# Altium schematic symbol library Microver.SchLib: 988 symbols (part 3 of 17)
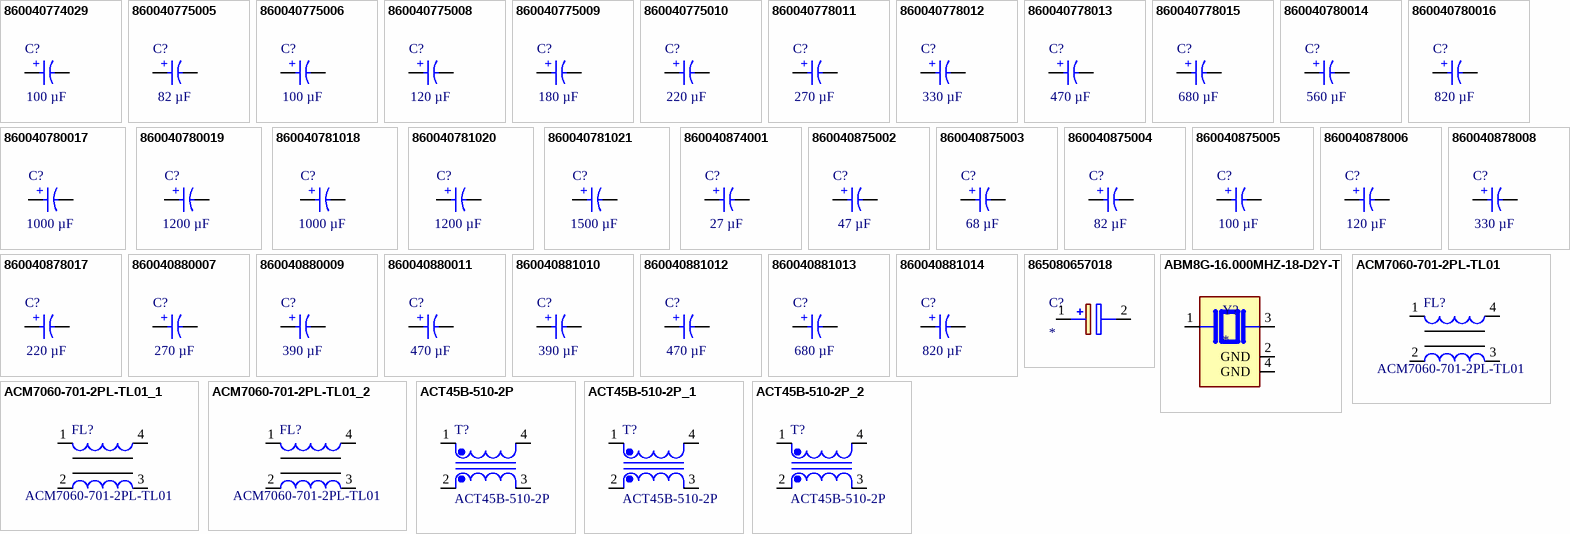
[diagram p31: symbols 860040774029 to ACT45B-510-2P_2]

## 860040774029
designator C?, comment 100 µF
WCAP-ATUL Aluminum Electrolytic Capacitor, Radial, THT, D8 x H16 mm, 100 µF, 63 V; Manufacturer Part Number: 860040774029; Manufacturer: Wurth Elektronik; Capacitance Tolerance: 20%; Dissipation Factor: 9%; Endurance: 9000 h; Leakage Current: 63 µA; Rated Voltage (DC): 63 V; Ripple Current: 990 mA; Category: Aluminum Electrolytic Capacitors; Match Code: WCAP-ATUL; ComponentLink1Description: Website Link; ComponentLink1URL: https://www.we-online.com/redexpert/article/860040774029?ad; ComponentLink2Description: Datasheet Link; ComponentLink2URL: https://www.we-online.com/redexpert/spec/860040774029?ad; Mount: Through Hole; Min Operating Temperature: -40 °C; Max Operating Temperature: 105 °C; Packaging: Bulk; Height: 16 mm; Diameter: 8 mm; Capacitance: 100 µF
footprint WCAP-ATUL_D8H16
simulation model 860040774029_100uF
pins: 1 P, 2 N
text: +

## 860040775005
designator C?, comment 82 µF
WCAP-ATUL Aluminum Electrolytic Capacitor, Radial, THT, D10 x H12.5 mm, 82 µF, 63 V; Manufacturer Part Number: 860040775005; Manufacturer: Wurth Elektronik; Capacitance Tolerance: 20%; Dissipation Factor: 9%; Endurance: 7000 h; Leakage Current: 51.66 µA; Rated Voltage (DC): 63 V; Ripple Current: 500 mA; Category: Aluminum Electrolytic Capacitors; Match Code: WCAP-ATUL; ComponentLink1Description: Website Link; ComponentLink1URL: https://www.we-online.com/redexpert/article/860040775005?ad; ComponentLink2Description: Datasheet Link; ComponentLink2URL: https://www.we-online.com/redexpert/spec/860040775005?ad; Mount: Through Hole; Min Operating Temperature: -40 °C; Max Operating Temperature: 105 °C; Packaging: Ammo Pack; Height: 12.5 mm; Diameter: 10 mm; Capacitance: 82 µF
footprint WCAP-ATUL_D10H12.5
simulation model 860040775005_82uF
pins: 1 P, 2 N
text: +

## 860040775006
designator C?, comment 100 µF
WCAP-ATUL Aluminum Electrolytic Capacitor, Radial, THT, D10 x H12.5 mm, 100 µF, 63 V; Manufacturer Part Number: 860040775006; Manufacturer: Wurth Elektronik; Capacitance Tolerance: 20%; Dissipation Factor: 9%; Endurance: 7000 h; Leakage Current: 63 µA; Rated Voltage (DC): 63 V; Ripple Current: 640 mA; Category: Aluminum Electrolytic Capacitors; Match Code: WCAP-ATUL; ComponentLink1Description: Website Link; ComponentLink1URL: https://www.we-online.com/redexpert/article/860040775006?ad; ComponentLink2Description: Datasheet Link; ComponentLink2URL: https://www.we-online.com/redexpert/spec/860040775006?ad; Mount: Through Hole; Min Operating Temperature: -40 °C; Max Operating Temperature: 105 °C; Packaging: Ammo Pack; Height: 12.5 mm; Diameter: 10 mm; Capacitance: 100 µF
footprint WCAP-ATUL_D10H12.5
simulation model 860040775006_100uF
pins: 1 P, 2 N
text: +

## 860040775008
designator C?, comment 120 µF
WCAP-ATUL Aluminum Electrolytic Capacitor, Radial, THT, D10 x H16 mm, 120 µF, 63 V; Manufacturer Part Number: 860040775008; Manufacturer: Wurth Elektronik; Capacitance Tolerance: 20%; Dissipation Factor: 9%; Endurance: 7000 h; Leakage Current: 75.6 µA; Rated Voltage (DC): 63 V; Ripple Current: 760 mA; Category: Aluminum Electrolytic Capacitors; Match Code: WCAP-ATUL; ComponentLink1Description: Website Link; ComponentLink1URL: https://www.we-online.com/redexpert/article/860040775008?ad; ComponentLink2Description: Datasheet Link; ComponentLink2URL: https://www.we-online.com/redexpert/spec/860040775008?ad; Mount: Through Hole; Min Operating Temperature: -40 °C; Max Operating Temperature: 105 °C; Packaging: Ammo Pack; Height: 16 mm; Diameter: 10 mm; Capacitance: 120 µF
footprint WCAP-ATUL_D10H16
simulation model 860040775008_120uF
pins: 1 P, 2 N
text: +

## 860040775009
designator C?, comment 180 µF
WCAP-ATUL Aluminum Electrolytic Capacitor, Radial, THT, D10 x H20 mm, 180 µF, 63 V; Manufacturer Part Number: 860040775009; Manufacturer: Wurth Elektronik; Capacitance Tolerance: 20%; Dissipation Factor: 9%; Endurance: 7000 h; Leakage Current: 113.4 µA; Rated Voltage (DC): 63 V; Ripple Current: 880 mA; Category: Aluminum Electrolytic Capacitors; Match Code: WCAP-ATUL; ComponentLink1Description: Website Link; ComponentLink1URL: https://www.we-online.com/redexpert/article/860040775009?ad; ComponentLink2Description: Datasheet Link; ComponentLink2URL: https://www.we-online.com/redexpert/spec/860040775009?ad; Mount: Through Hole; Min Operating Temperature: -40 °C; Max Operating Temperature: 105 °C; Packaging: Ammo Pack; Height: 20 mm; Diameter: 10 mm; Capacitance: 180 µF
footprint WCAP-ATUL_D10H20
simulation model 860040775009_180uF
pins: 1 P, 2 N
text: +

## 860040775010
designator C?, comment 220 µF
WCAP-ATUL Aluminum Electrolytic Capacitor, Radial, THT, D10 x H25 mm, 220 µF, 63 V; Manufacturer Part Number: 860040775010; Manufacturer: Wurth Elektronik; Capacitance Tolerance: 20%; Dissipation Factor: 9%; Endurance: 7000 h; Leakage Current: 138.6 µA; Rated Voltage (DC): 63 V; Ripple Current: 1100 mA; Category: Aluminum Electrolytic Capacitors; Match Code: WCAP-ATUL; ComponentLink1Description: Website Link; ComponentLink1URL: https://www.we-online.com/redexpert/article/860040775010?ad; ComponentLink2Description: Datasheet Link; ComponentLink2URL: https://www.we-online.com/redexpert/spec/860040775010?ad; Mount: Through Hole; Min Operating Temperature: -40 °C; Max Operating Temperature: 105 °C; Packaging: Ammo Pack; Height: 25 mm; Diameter: 10 mm; Capacitance: 220 µF
footprint WCAP-ATUL_D10H25
simulation model 860040775010_220uF
pins: 1 P, 2 N
text: +

## 860040778011
designator C?, comment 270 µF
WCAP-ATUL Aluminum Electrolytic Capacitor, Radial, THT, D13 x H20 mm, 270 µF, 63 V; Manufacturer Part Number: 860040778011; Manufacturer: Wurth Elektronik; Capacitance Tolerance: 20%; Dissipation Factor: 9%; Endurance: 10000 h; Leakage Current: 170.1 µA; Rated Voltage (DC): 63 V; Ripple Current: 1200 mA; Category: Aluminum Electrolytic Capacitors; Match Code: WCAP-ATUL; ComponentLink1Description: Website Link; ComponentLink1URL: https://www.we-online.com/redexpert/article/860040778011?ad; ComponentLink2Description: Datasheet Link; ComponentLink2URL: https://www.we-online.com/redexpert/spec/860040778011?ad; Mount: Through Hole; Min Operating Temperature: -40 °C; Max Operating Temperature: 105 °C; Packaging: Ammo Pack; Height: 20 mm; Diameter: 13 mm; Capacitance: 270 µF
footprint WCAP-ATUL_D13H20
simulation model 860040778011_270uF
pins: 1 P, 2 N
text: +

## 860040778012
designator C?, comment 330 µF
WCAP-ATUL Aluminum Electrolytic Capacitor, Radial, THT, D13 x H25 mm, 330 µF, 63 V; Manufacturer Part Number: 860040778012; Manufacturer: Wurth Elektronik; Capacitance Tolerance: 20%; Dissipation Factor: 9%; Endurance: 10000 h; Leakage Current: 207.9 µA; Rated Voltage (DC): 63 V; Ripple Current: 1600 mA; Category: Aluminum Electrolytic Capacitors; Match Code: WCAP-ATUL; ComponentLink1Description: Website Link; ComponentLink1URL: https://www.we-online.com/redexpert/article/860040778012?ad; ComponentLink2Description: Datasheet Link; ComponentLink2URL: https://www.we-online.com/redexpert/spec/860040778012?ad; Mount: Through Hole; Min Operating Temperature: -40 °C; Max Operating Temperature: 105 °C; Packaging: Ammo Pack; Height: 25 mm; Diameter: 13 mm; Capacitance: 330 µF
footprint WCAP-ATUL_D13H25
simulation model 860040778012_330uF
pins: 1 P, 2 N
text: +

## 860040778013
designator C?, comment 470 µF
WCAP-ATUL Aluminum Electrolytic Capacitor, Radial, THT, D13 x H30 mm, 470 µF, 63 V; Manufacturer Part Number: 860040778013; Manufacturer: Wurth Elektronik; Capacitance Tolerance: 20%; Dissipation Factor: 9%; Endurance: 10000 h; Leakage Current: 296.1 µA; Rated Voltage (DC): 63 V; Ripple Current: 1800 mA; Category: Aluminum Electrolytic Capacitors; Match Code: WCAP-ATUL; ComponentLink1Description: Website Link; ComponentLink1URL: https://www.we-online.com/redexpert/article/860040778013?ad; ComponentLink2Description: Datasheet Link; ComponentLink2URL: https://www.we-online.com/redexpert/spec/860040778013?ad; Mount: Through Hole; Min Operating Temperature: -40 °C; Max Operating Temperature: 105 °C; Packaging: Ammo Pack; Height: 30 mm; Diameter: 13 mm; Capacitance: 470 µF
footprint WCAP-ATUL_D13H30
simulation model 860040778013_470uF
pins: 1 P, 2 N
text: +

## 860040778015
designator C?, comment 680 µF
WCAP-ATUL Aluminum Electrolytic Capacitor, Radial, THT, D13 x H40 mm, 680 µF, 63 V; Manufacturer Part Number: 860040778015; Manufacturer: Wurth Elektronik; Capacitance Tolerance: 20%; Dissipation Factor: 9%; Endurance: 10000 h; Leakage Current: 428.4 µA; Rated Voltage (DC): 63 V; Ripple Current: 2200 mA; Category: Aluminum Electrolytic Capacitors; Match Code: WCAP-ATUL; ComponentLink1Description: Website Link; ComponentLink1URL: https://www.we-online.com/redexpert/article/860040778015?ad; ComponentLink2Description: Datasheet Link; ComponentLink2URL: https://www.we-online.com/redexpert/spec/860040778015?ad; Mount: Through Hole; Min Operating Temperature: -40 °C; Max Operating Temperature: 105 °C; Packaging: Ammo Pack; Height: 40 mm; Diameter: 13 mm; Capacitance: 680 µF
footprint WCAP-ATUL_D13H40
simulation model 860040778015_680uF
pins: 1 P, 2 N
text: +

## 860040780014
designator C?, comment 560 µF
WCAP-ATUL Aluminum Electrolytic Capacitor, Radial, THT, D16 x H25 mm, 560 µF, 63 V; Manufacturer Part Number: 860040780014; Manufacturer: Wurth Elektronik; Capacitance Tolerance: 20%; Dissipation Factor: 9%; Endurance: 10000 h; Leakage Current: 352.8 µA; Rated Voltage (DC): 63 V; Ripple Current: 2000 mA; Category: Aluminum Electrolytic Capacitors; Match Code: WCAP-ATUL; ComponentLink1Description: Website Link; ComponentLink1URL: https://www.we-online.com/redexpert/article/860040780014?ad; ComponentLink2Description: Datasheet Link; ComponentLink2URL: https://www.we-online.com/redexpert/spec/860040780014?ad; Mount: Through Hole; Min Operating Temperature: -40 °C; Max Operating Temperature: 105 °C; Packaging: Ammo Pack; Height: 25 mm; Diameter: 16 mm; Capacitance: 560 µF
footprint WCAP-ATUL_D16H25
simulation model 860040780014_560uF
pins: 1 P, 2 N
text: +

## 860040780016
designator C?, comment 820 µF
WCAP-ATUL Aluminum Electrolytic Capacitor, Radial, THT, D16 x H31.5 mm, 820 µF, 63 V; Manufacturer Part Number: 860040780016; Manufacturer: Wurth Elektronik; Capacitance Tolerance: 20%; Dissipation Factor: 9%; Endurance: 10000 h; Leakage Current: 516.6 µA; Rated Voltage (DC): 63 V; Ripple Current: 2400 mA; Category: Aluminum Electrolytic Capacitors; Match Code: WCAP-ATUL; ComponentLink1Description: Website Link; ComponentLink1URL: https://www.we-online.com/redexpert/article/860040780016?ad; ComponentLink2Description: Datasheet Link; ComponentLink2URL: https://www.we-online.com/redexpert/spec/860040780016?ad; Mount: Through Hole; Min Operating Temperature: -40 °C; Max Operating Temperature: 105 °C; Packaging: Ammo Pack; Height: 31.5 mm; Diameter: 16 mm; Capacitance: 820 µF
footprint WCAP-ATUL_D16H31.5
simulation model 860040780016_820uF
pins: 1 P, 2 N
text: +

## 860040780017
designator C?, comment 1000 µF
WCAP-ATUL Aluminum Electrolytic Capacitor, Radial, THT, D16 x H35.5 mm, 1000 µF, 63 V; Manufacturer Part Number: 860040780017; Manufacturer: Wurth Elektronik; Capacitance Tolerance: 20%; Dissipation Factor: 9%; Endurance: 10000 h; Leakage Current: 630 µA; Rated Voltage (DC): 63 V; Ripple Current: 2500 mA; Category: Aluminum Electrolytic Capacitors; Match Code: WCAP-ATUL; ComponentLink1Description: Website Link; ComponentLink1URL: https://www.we-online.com/redexpert/article/860040780017?ad; ComponentLink2Description: Datasheet Link; ComponentLink2URL: https://www.we-online.com/redexpert/spec/860040780017?ad; Mount: Through Hole; Min Operating Temperature: -40 °C; Max Operating Temperature: 105 °C; Packaging: Ammo Pack; Height: 35.5 mm; Diameter: 16 mm; Capacitance: 1000 µF
footprint WCAP-ATUL_D16H35.5
simulation model 860040780017_1mF
pins: 1 P, 2 N
text: +

## 860040780019
designator C?, comment 1200 µF
WCAP-ATUL Aluminum Electrolytic Capacitor, Radial, THT, D16 x H41 mm, 1200 µF, 63 V; Manufacturer Part Number: 860040780019; Manufacturer: Wurth Elektronik; Capacitance Tolerance: 20%; Dissipation Factor: 9%; Endurance: 10000 h; Leakage Current: 756 µA; Rated Voltage (DC): 63 V; Ripple Current: 2920 mA; Category: Aluminum Electrolytic Capacitors; Match Code: WCAP-ATUL; ComponentLink1Description: Website Link; ComponentLink1URL: https://www.we-online.com/redexpert/article/860040780019?ad; ComponentLink2Description: Datasheet Link; ComponentLink2URL: https://www.we-online.com/redexpert/spec/860040780019?ad; Mount: Through Hole; Min Operating Temperature: -40 °C; Max Operating Temperature: 105 °C; Packaging: Ammo Pack; Height: 41 mm; Diameter: 16 mm; Capacitance: 1200 µF
footprint WCAP-ATUL_D16H41
simulation model 860040780019_1.2mF
pins: 1 P, 2 N
text: +

## 860040781018
designator C?, comment 1000 µF
WCAP-ATUL Aluminum Electrolytic Capacitor, Radial, THT, D18 x H31.5 mm, 1000 µF, 63 V; Manufacturer Part Number: 860040781018; Manufacturer: Wurth Elektronik; Capacitance Tolerance: 20%; Dissipation Factor: 9%; Endurance: 10000 h; Leakage Current: 630 µA; Rated Voltage (DC): 63 V; Ripple Current: 2800 mA; Category: Aluminum Electrolytic Capacitors; Match Code: WCAP-ATUL; ComponentLink1Description: Website Link; ComponentLink1URL: https://www.we-online.com/redexpert/article/860040781018?ad; ComponentLink2Description: Datasheet Link; ComponentLink2URL: https://www.we-online.com/redexpert/spec/860040781018?ad; Mount: Through Hole; Min Operating Temperature: -40 °C; Max Operating Temperature: 105 °C; Packaging: Ammo Pack; Height: 31.5 mm; Diameter: 18 mm; Capacitance: 1000 µF
footprint WCAP-ATUL_D18H31.5
simulation model 860040781018_1mF
pins: 1 P, 2 N
text: +

## 860040781020
designator C?, comment 1200 µF
WCAP-ATUL Aluminum Electrolytic Capacitor, Radial, THT, D18 x H35.5 mm, 1200 µF, 63 V; Manufacturer Part Number: 860040781020; Manufacturer: Wurth Elektronik; Capacitance Tolerance: 20%; Dissipation Factor: 9%; Endurance: 10000 h; Leakage Current: 756 µA; Rated Voltage (DC): 63 V; Ripple Current: 3000 mA; Category: Aluminum Electrolytic Capacitors; Match Code: WCAP-ATUL; ComponentLink1Description: Website Link; ComponentLink1URL: https://www.we-online.com/redexpert/article/860040781020?ad; ComponentLink2Description: Datasheet Link; ComponentLink2URL: https://www.we-online.com/redexpert/spec/860040781020?ad; Mount: Through Hole; Min Operating Temperature: -40 °C; Max Operating Temperature: 105 °C; Packaging: Ammo Pack; Height: 35.5 mm; Diameter: 18 mm; Capacitance: 1200 µF
footprint WCAP-ATUL_D18H35.5
simulation model 860040781020_1.2mF
pins: 1 P, 2 N
text: +

## 860040781021
designator C?, comment 1500 µF
WCAP-ATUL Aluminum Electrolytic Capacitor, Radial, THT, D18 x H41 mm, 1500 µF, 63 V; Manufacturer Part Number: 860040781021; Manufacturer: Wurth Elektronik; Capacitance Tolerance: 20%; Dissipation Factor: 9%; Endurance: 10000 h; Leakage Current: 945 µA; Rated Voltage (DC): 63 V; Ripple Current: 3200 mA; Category: Aluminum Electrolytic Capacitors; Match Code: WCAP-ATUL; ComponentLink1Description: Website Link; ComponentLink1URL: https://www.we-online.com/redexpert/article/860040781021?ad; ComponentLink2Description: Datasheet Link; ComponentLink2URL: https://www.we-online.com/redexpert/spec/860040781021?ad; Mount: Through Hole; Min Operating Temperature: -40 °C; Max Operating Temperature: 105 °C; Packaging: Ammo Pack; Height: 41 mm; Diameter: 18 mm; Capacitance: 1500 µF
footprint WCAP-ATUL_D18H41
simulation model 860040781021_1.5mF
pins: 1 P, 2 N
text: +

## 860040874001
designator C?, comment 27 µF
WCAP-ATUL Aluminum Electrolytic Capacitor, Radial, THT, D8 x H11.5 mm, 27 µF, 100 V; Manufacturer Part Number: 860040874001; Manufacturer: Wurth Elektronik; Capacitance Tolerance: 20%; Dissipation Factor: 9%; Endurance: 7000 h; Leakage Current: 27 µA; Rated Voltage (DC): 100 V; Ripple Current: 300 mA; Category: Aluminum Electrolytic Capacitors; Match Code: WCAP-ATUL; ComponentLink1Description: Website Link; ComponentLink1URL: https://www.we-online.com/redexpert/article/860040874001?ad; ComponentLink2Description: Datasheet Link; ComponentLink2URL: https://www.we-online.com/redexpert/spec/860040874001?ad; Mount: Through Hole; Min Operating Temperature: -40 °C; Max Operating Temperature: 105 °C; Packaging: Ammo Pack; Height: 11.5 mm; Diameter: 8 mm; Capacitance: 27 µF
footprint WCAP-ATUL_D8H11.5
simulation model 860040874001_27uF
pins: 1 P, 2 N
text: +

## 860040875002
designator C?, comment 47 µF
WCAP-ATUL Aluminum Electrolytic Capacitor, Radial, THT, D10 x H12.5 mm, 47 µF, 100 V; Manufacturer Part Number: 860040875002; Manufacturer: Wurth Elektronik; Capacitance Tolerance: 20%; Dissipation Factor: 9%; Endurance: 7000 h; Leakage Current: 47 µA; Rated Voltage (DC): 100 V; Ripple Current: 400 mA; Category: Aluminum Electrolytic Capacitors; Match Code: WCAP-ATUL; ComponentLink1Description: Website Link; ComponentLink1URL: https://www.we-online.com/redexpert/article/860040875002?ad; ComponentLink2Description: Datasheet Link; ComponentLink2URL: https://www.we-online.com/redexpert/spec/860040875002?ad; Mount: Through Hole; Min Operating Temperature: -40 °C; Max Operating Temperature: 105 °C; Packaging: Ammo Pack; Height: 12.5 mm; Diameter: 10 mm; Capacitance: 47 µF
footprint WCAP-ATUL_D10H12.5
simulation model 860040875002_47uF
pins: 1 P, 2 N
text: +

## 860040875003
designator C?, comment 68 µF
WCAP-ATUL Aluminum Electrolytic Capacitor, Radial, THT, D10 x H16 mm, 68 µF, 100 V; Manufacturer Part Number: 860040875003; Manufacturer: Wurth Elektronik; Capacitance Tolerance: 20%; Dissipation Factor: 9%; Endurance: 7000 h; Leakage Current: 68 µA; Rated Voltage (DC): 100 V; Ripple Current: 460 mA; Category: Aluminum Electrolytic Capacitors; Match Code: WCAP-ATUL; ComponentLink1Description: Website Link; ComponentLink1URL: https://www.we-online.com/redexpert/article/860040875003?ad; ComponentLink2Description: Datasheet Link; ComponentLink2URL: https://www.we-online.com/redexpert/spec/860040875003?ad; Mount: Through Hole; Min Operating Temperature: -40 °C; Max Operating Temperature: 105 °C; Packaging: Ammo Pack; Height: 16 mm; Diameter: 10 mm; Capacitance: 68 µF
footprint WCAP-ATUL_D10H16
simulation model 860040875003_68uF
pins: 1 P, 2 N
text: +

## 860040875004
designator C?, comment 82 µF
WCAP-ATUL Aluminum Electrolytic Capacitor, Radial, THT, D10 x H20 mm, 82 µF, 100 V; Manufacturer Part Number: 860040875004; Manufacturer: Wurth Elektronik; Capacitance Tolerance: 20%; Dissipation Factor: 9%; Endurance: 7000 h; Leakage Current: 82 µA; Rated Voltage (DC): 100 V; Ripple Current: 600 mA; Category: Aluminum Electrolytic Capacitors; Match Code: WCAP-ATUL; ComponentLink1Description: Website Link; ComponentLink1URL: https://www.we-online.com/redexpert/article/860040875004?ad; ComponentLink2Description: Datasheet Link; ComponentLink2URL: https://www.we-online.com/redexpert/spec/860040875004?ad; Mount: Through Hole; Min Operating Temperature: -40 °C; Max Operating Temperature: 105 °C; Packaging: Ammo Pack; Height: 20 mm; Diameter: 10 mm; Capacitance: 82 µF
footprint WCAP-ATUL_D10H20
simulation model 860040875004_82uF
pins: 1 P, 2 N
text: +

## 860040875005
designator C?, comment 100 µF
WCAP-ATUL Aluminum Electrolytic Capacitor, Radial, THT, D10 x H25 mm, 100 µF, 100 V; Manufacturer Part Number: 860040875005; Manufacturer: Wurth Elektronik; Capacitance Tolerance: 20%; Dissipation Factor: 9%; Endurance: 7000 h; Leakage Current: 100 µA; Rated Voltage (DC): 100 V; Ripple Current: 800 mA; Category: Aluminum Electrolytic Capacitors; Match Code: WCAP-ATUL; ComponentLink1Description: Website Link; ComponentLink1URL: https://www.we-online.com/redexpert/article/860040875005?ad; ComponentLink2Description: Datasheet Link; ComponentLink2URL: https://www.we-online.com/redexpert/spec/860040875005?ad; Mount: Through Hole; Min Operating Temperature: -40 °C; Max Operating Temperature: 105 °C; Packaging: Ammo Pack; Height: 25 mm; Diameter: 10 mm; Capacitance: 100 µF
footprint WCAP-ATUL_D10H25
simulation model 860040875005_100uF
pins: 1 P, 2 N
text: +

## 860040878006
designator C?, comment 120 µF
WCAP-ATUL Aluminum Electrolytic Capacitor, Radial, THT, D13 x H20 mm, 120 µF, 100 V; Manufacturer Part Number: 860040878006; Manufacturer: Wurth Elektronik; Capacitance Tolerance: 20%; Dissipation Factor: 9%; Endurance: 10000 h; Leakage Current: 120 µA; Rated Voltage (DC): 100 V; Ripple Current: 900 mA; Category: Aluminum Electrolytic Capacitors; Match Code: WCAP-ATUL; ComponentLink1Description: Website Link; ComponentLink1URL: https://www.we-online.com/redexpert/article/860040878006?ad; ComponentLink2Description: Datasheet Link; ComponentLink2URL: https://www.we-online.com/redexpert/spec/860040878006?ad; Mount: Through Hole; Min Operating Temperature: -40 °C; Max Operating Temperature: 105 °C; Packaging: Ammo Pack; Height: 20 mm; Diameter: 13 mm; Capacitance: 120 µF
footprint WCAP-ATUL_D13H20
simulation model 860040878006_120uF
pins: 1 P, 2 N
text: +

## 860040878008
designator C?, comment 330 µF
WCAP-ATUL Aluminum Electrolytic Capacitor, Radial, THT, D13 x H40 mm, 330 µF, 100 V; Manufacturer Part Number: 860040878008; Manufacturer: Wurth Elektronik; Capacitance Tolerance: 20%; Dissipation Factor: 9%; Endurance: 10000 h; Leakage Current: 330 µA; Rated Voltage (DC): 100 V; Ripple Current: 1600 mA; Category: Aluminum Electrolytic Capacitors; Match Code: WCAP-ATUL; ComponentLink1Description: Website Link; ComponentLink1URL: https://www.we-online.com/redexpert/article/860040878008?ad; ComponentLink2Description: Datasheet Link; ComponentLink2URL: https://www.we-online.com/redexpert/spec/860040878008?ad; Mount: Through Hole; Min Operating Temperature: -40 °C; Max Operating Temperature: 105 °C; Packaging: Ammo Pack; Height: 40 mm; Diameter: 13 mm; Capacitance: 330 µF
footprint WCAP-ATUL_D13H40
simulation model 860040878008_330uF
pins: 1 P, 2 N
text: +

## 860040878017
designator C?, comment 220 µF
WCAP-ATUL Aluminum Electrolytic Capacitor, Radial, THT, D13 x H25 mm, 220 µF, 100 V; Manufacturer Part Number: 860040878017; Manufacturer: Wurth Elektronik; Capacitance Tolerance: 20%; Dissipation Factor: 8%; Endurance: 10000 h; Leakage Current: 220 µA; Rated Voltage (DC): 100 V; Ripple Current: 2220 mA; Category: Aluminum Electrolytic Capacitors; Match Code: WCAP-ATUL; ComponentLink1Description: Website Link; ComponentLink1URL: https://www.we-online.com/redexpert/article/860040878017?ad; ComponentLink2Description: Datasheet Link; ComponentLink2URL: https://www.we-online.com/redexpert/spec/860040878017?ad; Mount: Through Hole; Min Operating Temperature: -40 °C; Max Operating Temperature: 105 °C; Packaging: Ammopack; Height: 25 mm; Diameter: 13 mm; Capacitance: 220 µF
footprint WCAP-ATUL_D13H25
simulation model 860040878017_220uF
pins: 1 P, 2 N
text: +

## 860040880007
designator C?, comment 270 µF
WCAP-ATUL Aluminum Electrolytic Capacitor, Radial, THT, D16 x H25 mm, 270 µF, 100 V; Manufacturer Part Number: 860040880007; Manufacturer: Wurth Elektronik; Capacitance Tolerance: 20%; Dissipation Factor: 9%; Endurance: 10000 h; Leakage Current: 270 µA; Rated Voltage (DC): 100 V; Ripple Current: 1480 mA; Category: Aluminum Electrolytic Capacitors; Match Code: WCAP-ATUL; ComponentLink1Description: Website Link; ComponentLink1URL: https://www.we-online.com/redexpert/article/860040880007?ad; ComponentLink2Description: Datasheet Link; ComponentLink2URL: https://www.we-online.com/redexpert/spec/860040880007?ad; Mount: Through Hole; Min Operating Temperature: -40 °C; Max Operating Temperature: 105 °C; Packaging: Ammo Pack; Height: 25 mm; Diameter: 16 mm; Capacitance: 270 µF
footprint WCAP-ATUL_D16H25
simulation model 860040880007_270uF
pins: 1 P, 2 N
text: +

## 860040880009
designator C?, comment 390 µF
WCAP-ATUL Aluminum Electrolytic Capacitor, Radial, THT, D16 x H31.5 mm, 390 µF, 100 V; Manufacturer Part Number: 860040880009; Manufacturer: Wurth Elektronik; Capacitance Tolerance: 20%; Dissipation Factor: 9%; Endurance: 10000 h; Leakage Current: 390 µA; Rated Voltage (DC): 100 V; Ripple Current: 1700 mA; Category: Aluminum Electrolytic Capacitors; Match Code: WCAP-ATUL; ComponentLink1Description: Website Link; ComponentLink1URL: https://www.we-online.com/redexpert/article/860040880009?ad; ComponentLink2Description: Datasheet Link; ComponentLink2URL: https://www.we-online.com/redexpert/spec/860040880009?ad; Mount: Through Hole; Min Operating Temperature: -40 °C; Max Operating Temperature: 105 °C; Packaging: Ammo Pack; Height: 31.5 mm; Diameter: 16 mm; Capacitance: 390 µF
footprint WCAP-ATUL_D16H31.5
simulation model 860040880009_390uF
pins: 1 P, 2 N
text: +

## 860040880011
designator C?, comment 470 µF
WCAP-ATUL Aluminum Electrolytic Capacitor, Radial, THT, D16 x H35.5 mm, 470 µF, 100 V; Manufacturer Part Number: 860040880011; Manufacturer: Wurth Elektronik; Capacitance Tolerance: 20%; Dissipation Factor: 9%; Endurance: 10000 h; Leakage Current: 470 µA; Rated Voltage (DC): 100 V; Ripple Current: 1880 mA; Category: Aluminum Electrolytic Capacitors; Match Code: WCAP-ATUL; ComponentLink1Description: Website Link; ComponentLink1URL: https://www.we-online.com/redexpert/article/860040880011?ad; ComponentLink2Description: Datasheet Link; ComponentLink2URL: https://www.we-online.com/redexpert/spec/860040880011?ad; Mount: Through Hole; Min Operating Temperature: -40 °C; Max Operating Temperature: 105 °C; Packaging: Ammo Pack; Height: 35.5 mm; Diameter: 16 mm; Capacitance: 470 µF
footprint WCAP-ATUL_D16H35.5
simulation model 860040880011_470uF
pins: 1 P, 2 N
text: +

## 860040881010
designator C?, comment 390 µF
WCAP-ATUL Aluminum Electrolytic Capacitor, Radial, THT, D18 x H25 mm, 390 µF, 100 V; Manufacturer Part Number: 860040881010; Manufacturer: Wurth Elektronik; Capacitance Tolerance: 20%; Dissipation Factor: 9%; Endurance: 10000 h; Leakage Current: 390 µA; Rated Voltage (DC): 100 V; Ripple Current: 1740 mA; Category: Aluminum Electrolytic Capacitors; Match Code: WCAP-ATUL; ComponentLink1Description: Website Link; ComponentLink1URL: https://www.we-online.com/redexpert/article/860040881010?ad; ComponentLink2Description: Datasheet Link; ComponentLink2URL: https://www.we-online.com/redexpert/spec/860040881010?ad; Mount: Through Hole; Min Operating Temperature: -40 °C; Max Operating Temperature: 105 °C; Packaging: Ammo Pack; Height: 25 mm; Diameter: 18 mm; Capacitance: 390 µF
footprint WCAP-ATUL_D18H25
simulation model 860040881010_390uF
pins: 1 P, 2 N
text: +

## 860040881012
designator C?, comment 470 µF
WCAP-ATUL Aluminum Electrolytic Capacitor, Radial, THT, D18 x H31.5 mm, 470 µF, 100 V; Manufacturer Part Number: 860040881012; Manufacturer: Wurth Elektronik; Capacitance Tolerance: 20%; Dissipation Factor: 9%; Endurance: 10000 h; Leakage Current: 470 µA; Rated Voltage (DC): 100 V; Ripple Current: 1600 mA; Category: Aluminum Electrolytic Capacitors; Match Code: WCAP-ATUL; ComponentLink1Description: Website Link; ComponentLink1URL: https://www.we-online.com/redexpert/article/860040881012?ad; ComponentLink2Description: Datasheet Link; ComponentLink2URL: https://www.we-online.com/redexpert/spec/860040881012?ad; Mount: Through Hole; Min Operating Temperature: -40 °C; Max Operating Temperature: 105 °C; Packaging: Ammo Pack; Height: 31.5 mm; Diameter: 18 mm; Capacitance: 470 µF
footprint WCAP-ATUL_D18H31.5
simulation model 860040881012_470uF
pins: 1 P, 2 N
text: +

## 860040881013
designator C?, comment 680 µF
WCAP-ATUL Aluminum Electrolytic Capacitor, Radial, THT, D18 x H35.5 mm, 680 µF, 100 V; Manufacturer Part Number: 860040881013; Manufacturer: Wurth Elektronik; Capacitance Tolerance: 20%; Dissipation Factor: 9%; Endurance: 10000 h; Leakage Current: 680 µA; Rated Voltage (DC): 100 V; Ripple Current: 1720 mA; Category: Aluminum Electrolytic Capacitors; Match Code: WCAP-ATUL; ComponentLink1Description: Website Link; ComponentLink1URL: https://www.we-online.com/redexpert/article/860040881013?ad; ComponentLink2Description: Datasheet Link; ComponentLink2URL: https://www.we-online.com/redexpert/spec/860040881013?ad; Mount: Through Hole; Min Operating Temperature: -40 °C; Max Operating Temperature: 105 °C; Packaging: Ammo Pack; Height: 35.5 mm; Diameter: 18 mm; Capacitance: 680 µF
footprint WCAP-ATUL_D18H35.5
simulation model 860040881013_680uF
pins: 1 P, 2 N
text: +

## 860040881014
designator C?, comment 820 µF
WCAP-ATUL Aluminum Electrolytic Capacitor, Radial, THT, D18 x H41 mm, 820 µF, 100 V; Manufacturer Part Number: 860040881014; Manufacturer: Wurth Elektronik; Capacitance Tolerance: 20%; Dissipation Factor: 9%; Endurance: 10000 h; Leakage Current: 820 µA; Rated Voltage (DC): 100 V; Ripple Current: 2340 mA; Category: Aluminum Electrolytic Capacitors; Match Code: WCAP-ATUL; ComponentLink1Description: Website Link; ComponentLink1URL: https://www.we-online.com/redexpert/article/860040881014?ad; ComponentLink2Description: Datasheet Link; ComponentLink2URL: https://www.we-online.com/redexpert/spec/860040881014?ad; Mount: Through Hole; Min Operating Temperature: -40 °C; Max Operating Temperature: 105 °C; Packaging: Ammo Pack; Height: 41 mm; Diameter: 18 mm; Capacitance: 820 µF
footprint WCAP-ATUL_D18H41
simulation model 860040881014_820uF
pins: 1 P, 2 N
text: +

## 865080657018
designator C?
220UF 20% 50V SMD; Manufacturer_Name: Wurth Elektronik; Manufacturer_Part_Number: 865080657018; Datasheet Link: https://www.we-online.com/catalog/datasheet/865080657018.pdf; Height: 10.5mm; Mouser Part Number: 710-865080657018; Mouser Price/Stock: https://www.mouser.co.uk/ProductDetail/Wurth-Elektronik/865080657018?qs=0KOYDY2FL28CcgHzg1XTuA%3D%3D
footprint CAPAE1030X1050N
pins: 1 +, 2 -

## ABM8G-16.000MHZ-18-D2Y-T
designator Y?
16 MHz Â±20ppm Crystal 18pF 80 Ohms 4-SMD, No Lead; MF: Abracon; MP: ABM8G-16.000MHZ-18-D2Y-T; SnapEDA_Link: https://www.snapeda.com/parts/ABM8G-16.000MHZ-18-D2Y-T/Abracon+LLC/view-part/?ref=snap; Check_prices: https://www.snapeda.com/parts/ABM8G-16.000MHZ-18-D2Y-T/Abracon+LLC/view-part/?ref=eda; Digi-Key_Part_Number: 535-10267-2-ND; Value: *; Package: SMD-4 Abracon; Purchase-URL: https://pricing.snapeda.com/search/part/ABM8G-16.000MHZ-18-D2Y-T/?ref=eda
footprint XTAL_ABM8G-16.000MHZ-18-D2Y-T
pins: 1, 2 GND (power), 3 2, 4 GND (power)

## ACM7060-701-2PL-TL01
designator FL?, comment Manufacturer Part Number: ACM7060-701-2PL-TL01  (hidden comment: CMC 4A 2LN 700 OHM SMD)
2 Line Common Mode Choke Surface Mount 700 Ohms @ 100 MHz 4A DCR 15mOhm; Order Code: Digi: 445-2215-2-ND; LCSC Manufacturer Part Number: ACM7060-701-2PL-TL01; LCSC Part Number: C78246
footprint TDK_0_MFG
pins: 1, 2, 3, 4

## ACM7060-701-2PL-TL01_1
designator FL?, comment Manufacturer Part Number: ACM7060-701-2PL-TL01  (hidden comment: CMC 4A 2LN 700 OHM SMD)
2 Line Common Mode Choke Surface Mount 700 Ohms @ 100 MHz 4A DCR 15mOhm; Order Code: Digi: 445-2215-2-ND; LCSC Manufacturer Part Number: ACM7060-701-2PL-TL01; LCSC Part Number: C78246
footprint TDK_0_MFG
pins: 1, 2, 3, 4

## ACM7060-701-2PL-TL01_2
designator FL?, comment Manufacturer Part Number: ACM7060-701-2PL-TL01  (hidden comment: CMC 4A 2LN 700 OHM SMD)
2 Line Common Mode Choke Surface Mount 700 Ohms @ 100 MHz 4A DCR 15mOhm; Order Code: Digi: 445-2215-2-ND; LCSC Manufacturer Part Number: ACM7060-701-2PL-TL01; LCSC Part Number: C78246
footprint TDK_0_MFG
pins: 1, 2, 3, 4

## ACT45B-510-2P
designator T?
Ind Common Mode Filter Wirewound 51uH 2KOhm -30% to 50% 100KHz 200mA 1812 T/R; Manufacturer: TDK; Manufacturer Part Number: ACT45B-510-2P-TL003; Core Material: Ferrite; Impedance: 2.8kR; DC Resistance (DCR): 1R; Number of Lines: 2; Voltage Rating (DC): 50V; Test Frequency: 10MHz; Insulation Resistance: 10MR; Element Configuration: Dual; Supplier 1: Digi-Key; Supplier Part Number 1: 445-3958-1-ND; RoHS: Yes; Category: Fixed Inductors; Stock 1: 75821; Pricing 1: 1=1,95000, 10=1,80000, 25=1,65000, 50=1,41000, 100=1,26000, 250=1,08000, 500=1,02000, 1000=0,93000 (USD); Mount: Surface Mount; Case/Package: 1812; Number of Pins: 4; Case Code (Imperial): 1812; Min Operating Temperature: -40°C; Max Operating Temperature: 150°C; Inductance: 51uH; Packaging: Tape and Reel; Package Quantity: 2000; Tolerance: 50%; Current Rating: 200mA; Max DC Current: 200mA; Current: 200mA; Voltage Rating: 50V; Termination: SMD/SMT; DC Current: 200mA; Self Resonant Frequency: 10MHz; Length: 4.7mm; Width: 3.2mm; Height: 2.8mm; Depth: 3.4mm; Radiation Hardening: No; REACH SVHC: No SVHC; Lead Free: Lead Free; Military Standard: Not; ComponentLink1URL: https://datasheet.ciiva.com/22726/1649098-22726290.pdf?src-supplier=Element14; ComponentLink1Description: https://datasheet.ciiva.com/22726/1649098-22726290.pdf?src-supplier=Element14; ComponentLink2URL: https://datasheet.ciiva.com/26793/act45b-510-2p-tl003-26793344.pdf?src-supplier=IIIC; ComponentLink2Description: https://datasheet.ciiva.com/26793/act45b-510-2p-tl003-26793344.pdf?src-supplier=IIIC; ComponentLink3URL: https://datasheet.ciiva.com/8498/e9711-act-8498633.pdf?src-supplier=Avnet; ComponentLink3Description: https://datasheet.ciiva.com/8498/e9711-act-8498633.pdf?src-supplier=Avnet; ComponentLink4URL: https://datasheet.ciiva.com/1007/e9711-act-1007931.pdf?src-supplier=Digi-Key; ComponentLink4Description: https://datasheet.ciiva.com/1007/e9711-act-1007931.pdf?src-supplier=Digi-Key; ComponentLink5URL: https://datasheet.ciiva.com/15191/getdatasheetpartid-349822-15191803.pdf?src-supplier=Verical; ComponentLink5Description: https://datasheet.ciiva.com/15191/getdatasheetpartid-349822-15191803.pdf?src-supplier=Verical; ComponentLink6URL: https://datasheet.ciiva.com/1007/e9711-act-1007932.pdf?src-supplier=Digi-Key; ComponentLink6Description: https://datasheet.ciiva.com/1007/e9711-act-1007932.pdf?src-supplier=Digi-Key; ComponentLink7URL: https://datasheet.ciiva.com/1007/e9711-act-1007933.pdf?src-supplier=Digi-Key; ComponentLink7Description: https://datasheet.ciiva.com/1007/e9711-act-1007933.pdf?src-supplier=Digi-Key; ComponentLink8URL: https://datasheet.ciiva.com/7649/1833202-7649183.pdf?src-supplier=Element14; ComponentLink8Description: https://datasheet.ciiva.com/7649/1833202-7649183.pdf?src-supplier=Element14; LCSC Manufacturer Part Number: ACT45B-510-2P-TL003; LCSC Part Number: C76584
footprint TDK_ACT45B-510-2P-TL003_0
pins: 1, 2, 3, 4

## ACT45B-510-2P_1
designator T?, comment ACT45B-510-2P
Ind Common Mode Filter Wirewound 51uH 2KOhm -30% to 50% 100KHz 200mA 1812 T/R; Manufacturer: TDK; Manufacturer Part Number: ACT45B-510-2P-TL003; Core Material: Ferrite; Impedance: 2.8kR; DC Resistance (DCR): 1R; Number of Lines: 2; Voltage Rating (DC): 50V; Test Frequency: 10MHz; Insulation Resistance: 10MR; Element Configuration: Dual; Supplier 1: Digi-Key; Supplier Part Number 1: 445-3958-1-ND; RoHS: Yes; Category: Fixed Inductors; Stock 1: 75821; Pricing 1: 1=1,95000, 10=1,80000, 25=1,65000, 50=1,41000, 100=1,26000, 250=1,08000, 500=1,02000, 1000=0,93000 (USD); Mount: Surface Mount; Case/Package: 1812; Number of Pins: 4; Case Code (Imperial): 1812; Min Operating Temperature: -40°C; Max Operating Temperature: 150°C; Inductance: 51uH; Packaging: Tape and Reel; Package Quantity: 2000; Tolerance: 50%; Current Rating: 200mA; Max DC Current: 200mA; Current: 200mA; Voltage Rating: 50V; Termination: SMD/SMT; DC Current: 200mA; Self Resonant Frequency: 10MHz; Length: 4.7mm; Width: 3.2mm; Height: 2.8mm; Depth: 3.4mm; Radiation Hardening: No; REACH SVHC: No SVHC; Lead Free: Lead Free; Military Standard: Not; ComponentLink1URL: https://datasheet.ciiva.com/22726/1649098-22726290.pdf?src-supplier=Element14; ComponentLink1Description: https://datasheet.ciiva.com/22726/1649098-22726290.pdf?src-supplier=Element14; ComponentLink2URL: https://datasheet.ciiva.com/26793/act45b-510-2p-tl003-26793344.pdf?src-supplier=IIIC; ComponentLink2Description: https://datasheet.ciiva.com/26793/act45b-510-2p-tl003-26793344.pdf?src-supplier=IIIC; ComponentLink3URL: https://datasheet.ciiva.com/8498/e9711-act-8498633.pdf?src-supplier=Avnet; ComponentLink3Description: https://datasheet.ciiva.com/8498/e9711-act-8498633.pdf?src-supplier=Avnet; ComponentLink4URL: https://datasheet.ciiva.com/1007/e9711-act-1007931.pdf?src-supplier=Digi-Key; ComponentLink4Description: https://datasheet.ciiva.com/1007/e9711-act-1007931.pdf?src-supplier=Digi-Key; ComponentLink5URL: https://datasheet.ciiva.com/15191/getdatasheetpartid-349822-15191803.pdf?src-supplier=Verical; ComponentLink5Description: https://datasheet.ciiva.com/15191/getdatasheetpartid-349822-15191803.pdf?src-supplier=Verical; ComponentLink6URL: https://datasheet.ciiva.com/1007/e9711-act-1007932.pdf?src-supplier=Digi-Key; ComponentLink6Description: https://datasheet.ciiva.com/1007/e9711-act-1007932.pdf?src-supplier=Digi-Key; ComponentLink7URL: https://datasheet.ciiva.com/1007/e9711-act-1007933.pdf?src-supplier=Digi-Key; ComponentLink7Description: https://datasheet.ciiva.com/1007/e9711-act-1007933.pdf?src-supplier=Digi-Key; ComponentLink8URL: https://datasheet.ciiva.com/7649/1833202-7649183.pdf?src-supplier=Element14; ComponentLink8Description: https://datasheet.ciiva.com/7649/1833202-7649183.pdf?src-supplier=Element14; LCSC Manufacturer Part Number: ACT45B-510-2P-TL003; LCSC Part Number: C76584
footprint TDK_ACT45B-510-2P-TL003_0
pins: 1, 2, 3, 4

## ACT45B-510-2P_2
designator T?, comment ACT45B-510-2P
Ind Common Mode Filter Wirewound 51uH 2KOhm -30% to 50% 100KHz 200mA 1812 T/R; Manufacturer: TDK; Manufacturer Part Number: ACT45B-510-2P-TL003; Core Material: Ferrite; Impedance: 2.8kR; DC Resistance (DCR): 1R; Number of Lines: 2; Voltage Rating (DC): 50V; Test Frequency: 10MHz; Insulation Resistance: 10MR; Element Configuration: Dual; Supplier 1: Digi-Key; Supplier Part Number 1: 445-3958-1-ND; RoHS: Yes; Category: Fixed Inductors; Stock 1: 75821; Pricing 1: 1=1,95000, 10=1,80000, 25=1,65000, 50=1,41000, 100=1,26000, 250=1,08000, 500=1,02000, 1000=0,93000 (USD); Mount: Surface Mount; Case/Package: 1812; Number of Pins: 4; Case Code (Imperial): 1812; Min Operating Temperature: -40°C; Max Operating Temperature: 150°C; Inductance: 51uH; Packaging: Tape and Reel; Package Quantity: 2000; Tolerance: 50%; Current Rating: 200mA; Max DC Current: 200mA; Current: 200mA; Voltage Rating: 50V; Termination: SMD/SMT; DC Current: 200mA; Self Resonant Frequency: 10MHz; Length: 4.7mm; Width: 3.2mm; Height: 2.8mm; Depth: 3.4mm; Radiation Hardening: No; REACH SVHC: No SVHC; Lead Free: Lead Free; Military Standard: Not; ComponentLink1URL: https://datasheet.ciiva.com/22726/1649098-22726290.pdf?src-supplier=Element14; ComponentLink1Description: https://datasheet.ciiva.com/22726/1649098-22726290.pdf?src-supplier=Element14; ComponentLink2URL: https://datasheet.ciiva.com/26793/act45b-510-2p-tl003-26793344.pdf?src-supplier=IIIC; ComponentLink2Description: https://datasheet.ciiva.com/26793/act45b-510-2p-tl003-26793344.pdf?src-supplier=IIIC; ComponentLink3URL: https://datasheet.ciiva.com/8498/e9711-act-8498633.pdf?src-supplier=Avnet; ComponentLink3Description: https://datasheet.ciiva.com/8498/e9711-act-8498633.pdf?src-supplier=Avnet; ComponentLink4URL: https://datasheet.ciiva.com/1007/e9711-act-1007931.pdf?src-supplier=Digi-Key; ComponentLink4Description: https://datasheet.ciiva.com/1007/e9711-act-1007931.pdf?src-supplier=Digi-Key; ComponentLink5URL: https://datasheet.ciiva.com/15191/getdatasheetpartid-349822-15191803.pdf?src-supplier=Verical; ComponentLink5Description: https://datasheet.ciiva.com/15191/getdatasheetpartid-349822-15191803.pdf?src-supplier=Verical; ComponentLink6URL: https://datasheet.ciiva.com/1007/e9711-act-1007932.pdf?src-supplier=Digi-Key; ComponentLink6Description: https://datasheet.ciiva.com/1007/e9711-act-1007932.pdf?src-supplier=Digi-Key; ComponentLink7URL: https://datasheet.ciiva.com/1007/e9711-act-1007933.pdf?src-supplier=Digi-Key; ComponentLink7Description: https://datasheet.ciiva.com/1007/e9711-act-1007933.pdf?src-supplier=Digi-Key; ComponentLink8URL: https://datasheet.ciiva.com/7649/1833202-7649183.pdf?src-supplier=Element14; ComponentLink8Description: https://datasheet.ciiva.com/7649/1833202-7649183.pdf?src-supplier=Element14; LCSC Manufacturer Part Number: ACT45B-510-2P-TL003; LCSC Part Number: C76584
footprint TDK_ACT45B-510-2P-TL003_0
pins: 1, 2, 3, 4

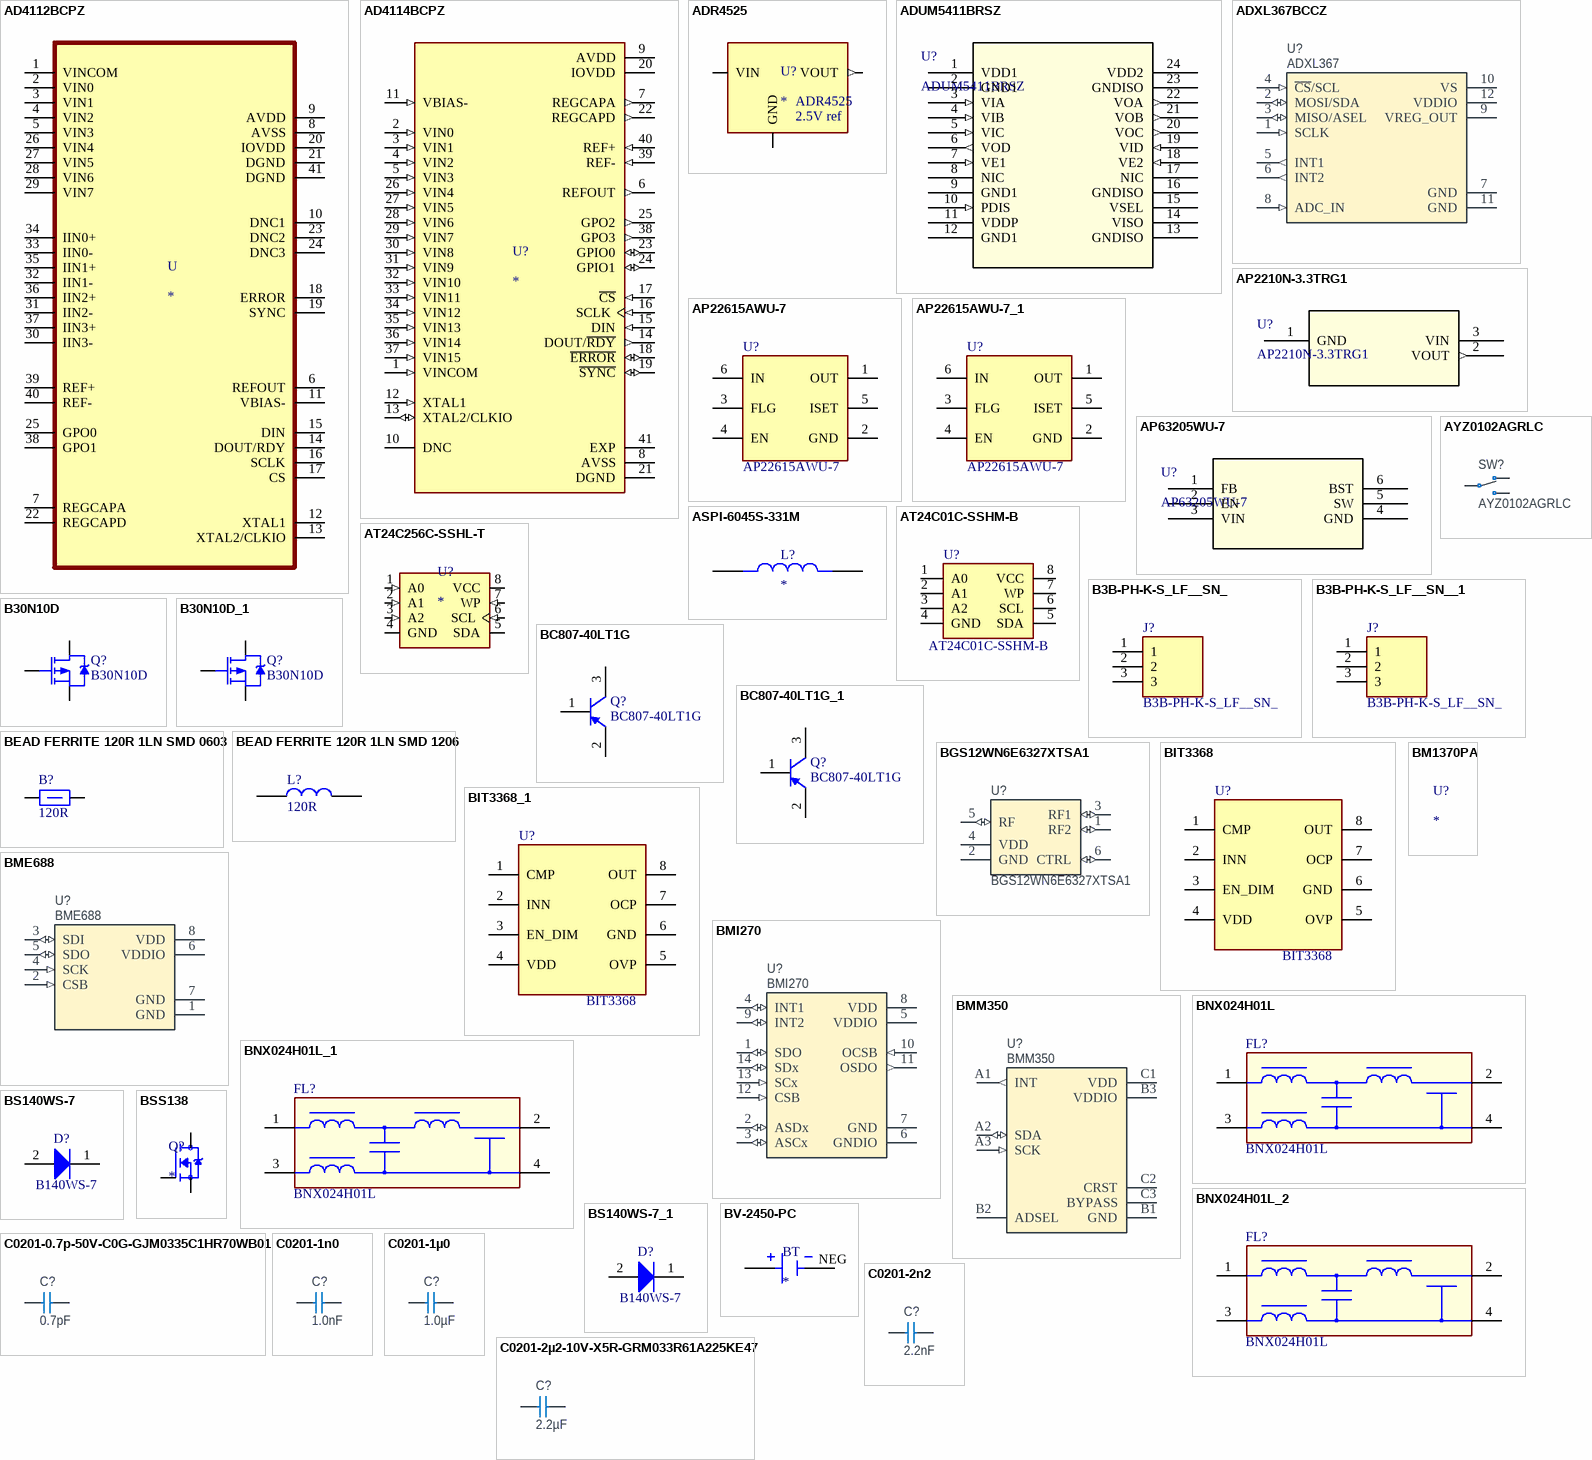
[diagram p4: symbols AD4112BCPZ to C0201-2µ2-10V-X5R-GRM033R61A225KE47]

## AD4112BCPZ
designator U
24 Bit Analog to Digital Converter 4, 8 Input 1 Sigma-Delta 40-LFCSP-VQ _6x6_
footprint QFN50P600X600X100-41P
pins: 1 VINCOM, 2 VIN0, 3 VIN1, 4 VIN2, 5 VIN3, 6 REFOUT, 7 REGCAPA, 8 AVSS, 9 AVDD, 10 DNC1, 11 VBIAS-, 12 XTAL1, 13 XTAL2/CLKIO, 14 DOUT/RDY, 15 DIN, 16 SCLK, 17 CS, 18 ERROR, 19 SYNC, 20 IOVDD, 21 DGND, 22 REGCAPD, 23 DNC2, 24 DNC3, 25 GPO0, 26 VIN4, 27 VIN5, 28 VIN6, 29 VIN7, 30 IIN3-, 31 IIN2-, 32 IIN1-, 33 IIN0-, 34 IIN0+, 35 IIN1+, 36 IIN2+, 37 IIN3+, 38 GPO1, 39 REF+, 40 REF-, 41 DGND

## AD4114BCPZ
designator U?
Single Supply, Multichannel, 31.25 kSPS, 24-Bit, Sigma-Delta ADC with Â±10 V Inputs; MP: AD4114BCPZ; MF: Analog Devices; Value: *; SnapEDA_Link: https://www.snapeda.com/parts/AD4114BCPZ/Analog+Devices/view-part/?ref=snap; Purchase-URL: https://pricing.snapeda.com/search/part/AD4114BCPZ/?ref=eda; Check_prices: https://www.snapeda.com/parts/AD4114BCPZ/Analog+Devices/view-part/?ref=eda; Availability: In Stock; Price: None; Package: VFQFN-40 Analog Devices
footprint QFN50P600X600X100-41P
pins: 1 VINCOM (in), 2 VIN0 (in), 3 VIN1 (in), 4 VIN2 (in), 5 VIN3 (in), 6 REFOUT (out), 7 REGCAPA (out), 8 AVSS (power), 9 AVDD (power), 10 DNC, 11 VBIAS- (in), 12 XTAL1 (in), 13 XTAL2/CLKIO (io), 14 DOUT/~{RDY} (out), 15 DIN (in), 16 SCLK (in), 17 ~{CS} (in), 18 ~{ERROR} (io), 19 ~{SYNC} (io), 20 IOVDD (power), 21 DGND (power), 22 REGCAPD (out), 23 GPIO0 (io), 24 GPIO1 (io), 25 GPO2 (out), 26 VIN4 (in), 27 VIN5 (in), 28 VIN6 (in), 29 VIN7 (in), 30 VIN8 (in), 31 VIN9 (in), 32 VIN10 (in), 33 VIN11 (in), 34 VIN12 (in), 35 VIN13 (in), 36 VIN14 (in), 37 VIN15 (in), 38 GPO3 (out), 39 REF- (in), 40 REF+ (in), 41 EXP (power)

## ADR4525
designator U?
Series Voltage Reference IC Fixed 2.5V V Â±0.02% 10 mA 8-SOIC; MF: Analog Devices; MP: ADR4525; SnapEDA_Link: https://www.snapeda.com/parts/ADR4525/Analog+Devices/view-part/?ref=snap; Package: SOIC-8 Analog Devices; Value: *; Check_prices: https://www.snapeda.com/parts/ADR4525/Analog+Devices/view-part/?ref=eda; Manufacturer Part Number: *
footprint SOIC-8
pins: 2 VIN (power), 4 GND (power), 6 VOUT (out)
text: 2.5V ref

## ADUM5411BRSZ
designator U?
Robust 2.5 kV rms Quad-Channel Isolator with Integrated DC-to-DC Converter & 1 Reverse Channel; Manufacturer_Name: Analog Devices Inc; Copyright: Copyright (C) 2025 Ultra Librarian. All rights reserved.; Manufacturer Part Number: ADUM5411BRSZ; Datasheet: https://www.analog.com/media/en/technical-documentation/data-sheets/ADuM5410-5411-5412.pdf; RefDes: RefDes; Type: Type
footprint RS-24_ADI
pins: 1 VDD1 (power), 2 GND1 (power), 3 VIA (in), 4 VIB (in), 5 VIC (in), 6 VOD (out), 7 VE1 (in), 8 NIC, 9 GND1 (power), 10 PDIS (in), 11 VDDP (power), 12 GND1 (power), 13 GNDISO (power), 14 VISO (power), 15 VSEL (power), 16 GNDISO (power), 17 NIC, 18 VE2 (in), 19 VID (in), 20 VOC (out), 21 VOB (out), 22 VOA (out), 23 GNDISO (power), 24 VDD2 (power)

## ADXL367BCCZ
designator U?, comment ADXL367
Micropower, 3-Axis, ±2 g/±4 g/±8 g Digital Output MEMS Accelerometer; Part Number: ADXL367BCCZ; Manufacturer: Analog Devices; Part number NEMS: 101900775; Note: N.A.; Component Status: Active; Pad Count: 12; Manufacturer Part Number: ADXL367BCCZ; ComponentLink1URL: http://www.analog.com/media/en/technical-documentation/data-sheets/ADXL367.pdf; ComponentLink1Description: Datasheet; ComponentLink2URL: https://www.digikey.com/en/products/detail/analog-devices-inc/ADXL367BCCZ-RL7/16360579; ComponentLink2Description: Supplier link; HelpURL: http://www.analog.com/en/products/ADXL367.html; Footprint Doc: LGA-12; LatestRevisionDate: 2023-04-03; Published: 2023-04-03; Value: ADXL367; Supplier 1: Digi-Key; Supplier Part Number 1: 505-ADXL367BCCZ-RL7CT-ND; Supplier 2: Mouser; Supplier Part Number 2: 584-ADXL367BCCZ-RL7; Artikkelnr Noca: N.A.; Part number IPS: N.A.; Component Class: Misc_ICs; Author: rubr; Part number Norautron: N.A.; PartId: 101900775
footprint LGA50P220X230X97-12N
pins: 1 SCLK (in), 2 MOSI/SDA (io), 3 MISO/ASEL (io), 4 ~{CS}/SCL (in), 5 INT1 (out), 6 INT2 (out), 7 GND (power), 8 ADC_IN (in), 9 VREG_OUT (power), 10 VS (power), 11 GND (power), 12 VDDIO (power)

## AP2210N-3.3TRG1
designator U?
No Description Available; Manufacturer_Name: Diodes Inc; Copyright: Copyright (C) 2025 Ultra Librarian. All rights reserved.; Manufacturer_Part_Number: AP2210N-3.3TRG1; RefDes: RefDes; Type: Type
footprint SOT_3.3TRG1_DIO
pins: 1 GND (power), 2 VOUT (out), 3 VIN

## AP22615AWU-7
designator U?, comment Manufacturer Part Number: AP22615AWU-7  (hidden comment: IC PWR SWTCH N/P-CHAN 1:1 TSOT26)
Power Switch/Driver 1:1 N/P-Channel 3A TSOT-26; Order Code: Digi: AP22615AWU-7DITR-ND; LCSC Manufacturer Part Number: AP22615AWU-7; LCSC Part Number: C2680357
footprint SOT95P280X100-6N
pins: 1 OUT, 2 GND, 3 FLG, 4 EN, 5 ISET, 6 IN

## AP22615AWU-7_1
designator U?, comment Manufacturer Part Number: AP22615AWU-7  (hidden comment: IC PWR SWTCH N/P-CHAN 1:1 TSOT26)
Power Switch/Driver 1:1 N/P-Channel 3A TSOT-26; Order Code: Digi: AP22615AWU-7DITR-ND; LCSC Manufacturer Part Number: AP22615AWU-7; LCSC Part Number: C2680357
footprint SOT95P280X100-6N
pins: 1 OUT, 2 GND, 3 FLG, 4 EN, 5 ISET, 6 IN

## AP63205WU-7
designator U?
No Description Available; Manufacturer_Name: Diodes Inc; Copyright: Copyright (C) 2025 Ultra Librarian. All rights reserved.; Manufacturer_Part_Number: AP63205WU-7; RefDes: RefDes; Type: Type
footprint SOIC_05WU-7_DIO
pins: 1 FB, 2 EN, 3 VIN, 4 GND (power), 5 SW, 6 BST

## ASPI-6045S-331M
designator L?
MF: Abracon; MP: ASPI-6045S-331M; Package: None; Purchase-URL: https://pricing.snapeda.com/search/part/ASPI-6045S-331M/?ref=eda; Value: *; Check_prices: https://www.snapeda.com/parts/ASPI-6045S-331M/Abracon/view-part/?ref=eda; SnapEDA_Link: https://www.snapeda.com/parts/ASPI-6045S-331M/Abracon/view-part/?ref=snap
footprint IND_ASPI-6045S-331M
pins: 1, 2

## AT24C01C-SSHM-B
designator U?
EEPROM Memory IC 1Kb (128 x 8) I²C 1 MHz 550 ns 8-SOIC; LCSC Manufacturer Part Number: AT24C01C-SSHM-T; Manufacturer Part Number: AT24C01C-SSHM-B; LCSC Part Number: C36157
footprint SOIC8_4P9X3P9MC_MCH-M
pins: 1 A0, 2 A1, 3 A2, 4 GND, 5 SDA, 6 SCL, 7 WP, 8 VCC

## AT24C256C-SSHL-T
designator U?
EEPROM Memory IC 256Kb _32K x 8_ IÂ²C 1MHz 550ns 8-SOIC; MP: AT24C256C-SSHL-T; MF: Microchip; SnapEDA_Link: https://www.snapeda.com/parts/AT24C256C-SSHL-T/Microchip/view-part/1864067/?ref=snap; Digi-Key_Part_Number: AT24C256C-SSHL-TCT-ND; Digi-Key_Purchase_URL: https://www.digikey.com/product-detail/en/microchip-technology/AT24C256C-SSHL-T/AT24C256C-SSHL-TCT-ND/3178468?utm_source=snapeda&utm_medium=aggregator&utm_campaign=symbol; Package: SO-8 Microchip; Value: *
footprint SOIC127P600X175-8N
pins: 1 A0 (in), 2 A1 (in), 3 A2 (in), 4 GND (power), 5 SDA (io), 6 SCL (in), 7 WP (in), 8 VCC (power)

## AYZ0102AGRLC
designator SW?
Miniature slide switch, SPDT, Right-Angle, ON-ON, 12V, 100mA; Manufacturer: C&K; Part number IPS: 00000002488; Part number NEMS: 101500120; Note: N.A.; Pad Count: 3; Component Status: Active; Part Number: AYZ0102AGRLC; Manufacturer Part Number: AYZ0102AGRLC; ComponentLink1URL: https://www.ckswitches.com/media/1431/ayz.pdf; ComponentLink1Description: Datasheet; ComponentLink2URL: N.A.; ComponentLink2Description: Supplier link; Footprint Doc: AYZ0102AGRLC; LatestRevisionDate: 2019-05-08; Published: 2019-05-08; Value: AYZ0102AGRLC; Artikkelnr Noca: N.A.; Supplier 1: Digi-Key; Supplier Part Number 1: 401-2012-1-ND; Supplier 2: N.A.; Supplier Part Number 2: N.A.; HelpURL: https://www.ckswitches.com/media/1431/ayz.pdf; Author: rsk; Component Class: Switches; PartId: 101500120; Part number Norautron: N.A.
footprint AYZ0102AGRLC
pins: 1 N.C, 2 COM, 3 N.O

## B3B-PH-K-S_LF__SN_
designator J?
Connector; Manufacturer_Name: JST (JAPAN SOLDERLESS TERMINALS); Manufacturer_Part_Number: B3B-PH-K-S(LF)(SN); Datasheet Link: http://www.jst-mfg.com/product/pdf/eng/ePH.pdf; Height: 6mm; LCSC Manufacturer Part Number: B3B-PH-K-S(LF)(SN); Arrow Part Number: B3B-PH-K-S(LF)(SN); Arrow Price/Stock: https://www.arrow.com/en/products/b3b-ph-k-s-lf-sn/jst-manufacturing; LCSC Part Number: C131339
footprint SHDR3W50P0X200_1X3_790X450X600P
pins: 1, 2, 3

## B3B-PH-K-S_LF__SN__1
designator J?, comment B3B-PH-K-S_LF__SN_
Connector; Manufacturer_Name: JST (JAPAN SOLDERLESS TERMINALS); Manufacturer_Part_Number: B3B-PH-K-S(LF)(SN); Datasheet Link: http://www.jst-mfg.com/product/pdf/eng/ePH.pdf; Height: 6mm; LCSC Manufacturer Part Number: B3B-PH-K-S(LF)(SN); Arrow Part Number: B3B-PH-K-S(LF)(SN); Arrow Price/Stock: https://www.arrow.com/en/products/b3b-ph-k-s-lf-sn/jst-manufacturing; LCSC Part Number: C131339
footprint SHDR3W50P0X200_1X3_790X450X600P
pins: 1, 2, 3

## B30N10D
designator Q?, comment value B30N10D  (hidden comment: B30N10D BITEK N CHANNEL MOSFET)
Manufacturer Part Number: Stock Component
footprint TO-252_L6.5-W6.1-P4.58-LS9.9-BR
pins: 1 G, 2 D, 3 S

## B30N10D_1
designator Q?, comment value B30N10D  (hidden comment: B30N10D BITEK N CHANNEL MOSFET)
Manufacturer Part Number: Stock Component
footprint TO-252_L6.5-W6.1-P4.58-LS9.9-BR
pins: 1 G, 2 D, 3 S